# EAGLE library part DF30FB-50DS-0.4V(82) (library Sala-Eng-Hirose)
Hirose .4mm 50 pin surface mount b2b connector DF30FB-50DS-0.4V(82) Socket
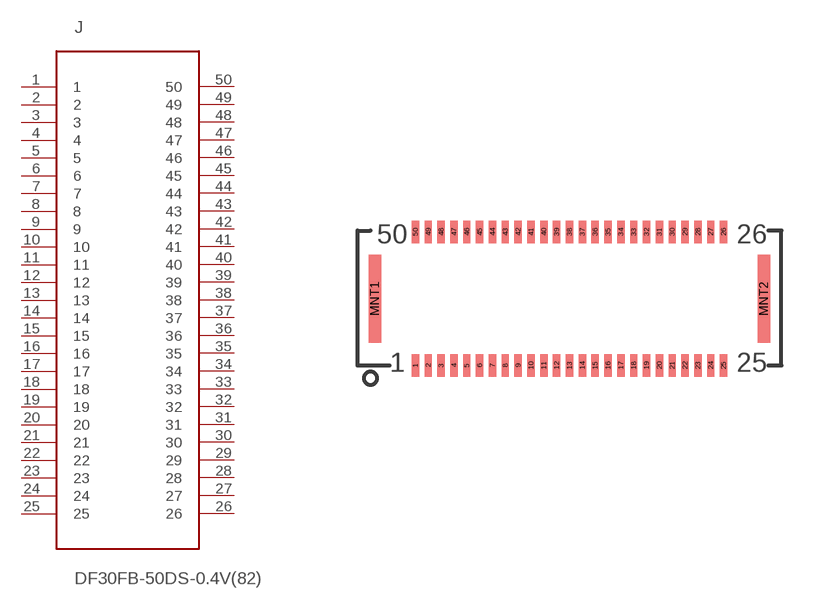
[diagram p0: symbol with the pads of DF30FB-50DS-0.4V(82); footprint DF30FB-50DS-0.4V(82)]

Designator prefix J

## DF30FB-50DS-0.4V(82) (MAN-PART-NUM: DF30FB-50DS-0.4V(82); MANUFACTURER: Hirose)  [DF30FB-50DS-0.4V(82)]
1  1
2  2
3  3
4  4
5  5
6  6
7  7
8  8
9  9
10  10
11  11
12  12
13  13
14  14
15  15
16  16
17  17
18  18
19  19
20  20
21  21
22  22
23  23
24  24
25  25
26  26
27  27
28  28
29  29
30  30
31  31
32  32
33  33
34  34
35  35
36  36
37  37
38  38
39  39
40  40
41  41
42  42
43  43
44  44
45  45
46  46
47  47
48  48
49  49
50  50

## Footprint DF30FB-50DS-0.4V(82) (pad centres in mm)
Hirose .4mm 50 pin surface mount b2b connector DF30FB-50DS-0.4V(82)
smd 0.23 x 0.7: 1 -4.8,-2.08; 2 -4.4,-2.08; 3 -4,-2.08; 4 -3.6,-2.08; 5 -3.2,-2.08; 6 -2.8,-2.08; 7 -2.4,-2.08; 8 -2,-2.08; 9 -1.6,-2.08; 10 -1.2,-2.08; 11 -0.8,-2.08; 12 -0.4,-2.08; 13 0,-2.08; 14 0.4,-2.08; 15 0.8,-2.08; 16 1.2,-2.08; 17 1.6,-2.08; 18 2,-2.08; 19 2.4,-2.08; 20 2.8,-2.08; 21 3.2,-2.08; 22 3.6,-2.08; 23 4,-2.08; 24 4.4,-2.08; 25 4.8,-2.08; 26 4.8,2.08; 27 4.4,2.08; 28 4,2.08; 29 3.6,2.08; 30 3.2,2.08; 31 2.8,2.08; 32 2.4,2.08; 33 2,2.08; 34 1.6,2.08; 35 1.2,2.08; 36 0.8,2.08; 37 0.4,2.08; 38 0,2.08; 39 -0.4,2.08; 40 -0.8,2.08; 41 -1.2,2.08; 42 -1.6,2.08; 43 -2,2.08; 44 -2.4,2.08; 45 -2.8,2.08; 46 -3.2,2.08; 47 -3.6,2.08; 48 -4,2.08; 49 -4.4,2.08; 50 -4.8,2.08
smd 0.4 x 2.74: MNT1 -6.06,0; MNT2 6.06,0